# EAGLE library part DISP_SEGMENT_4DIGIT_BL-Q56C43 (library microbuilder)
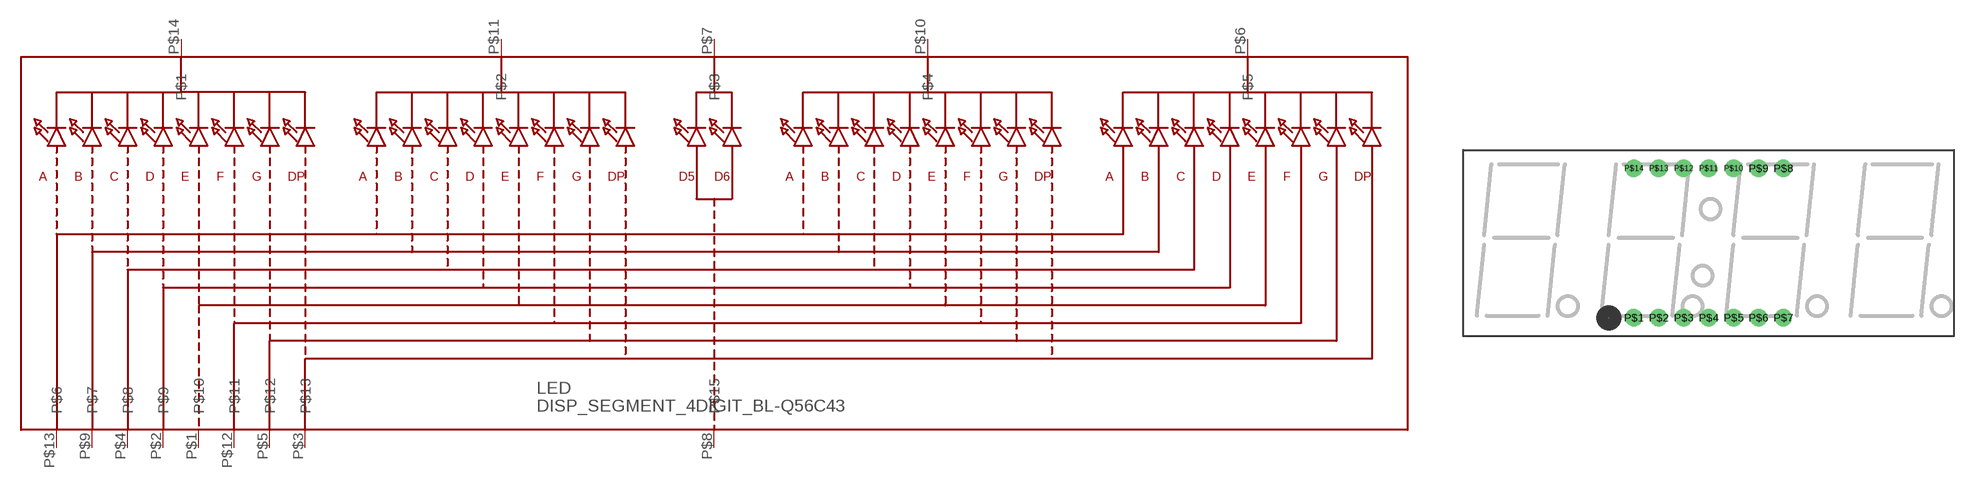
[diagram p180: symbol with the pads of SEGMENT-BL-Q56C43; footprint SEGMENT-BL-Q56C43]

Designator prefix LED

## DISP_SEGMENT_4DIGIT_BL-Q56C43  [SEGMENT-BL-Q56C43]
P$1  P$10
P$2  P$9
P$3  P$13
P$4  P$8
P$5  P$12
P$6  P$5
P$7  P$3
P$8  P$15
P$9  P$7
P$10  P$4
P$11  P$2
P$12  P$11
P$13  P$6
P$14  P$1

## Footprint SEGMENT-BL-Q56C43 (pad centres in mm)
drill 0.8 pad 1.778: P$1 -7.62,-7.62; P$2 -5.08,-7.62; P$3 -2.54,-7.62; P$4 0,-7.62; P$5 2.54,-7.62; P$6 5.08,-7.62; P$7 7.62,-7.62; P$8 7.62,7.62; P$9 5.08,7.62; P$10 2.54,7.62; P$11 0,7.62; P$12 -2.54,7.62; P$13 -5.08,7.62; P$14 -7.62,7.62